# Altium schematic symbol library USB Connectors.SchLib: 1 symbol
Pins are listed as number, name and electrical type; pins without a type are passive.

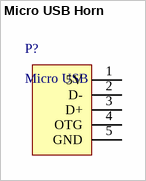
[diagram p0: symbol Micro USB Horn]

## Micro USB Horn
designator P?, comment Micro USB
MIcro USB Connector Horn
pins: 1 5V, 2 D-, 3 D+, 4 OTG, 5 GND